# Altium footprint library MitchSwitch_Bypass.PCBLIB: 270 footprints (part 16 of 17)
Each footprint in its own frame and in the unit in brackets; x right, y up, seen from the top. Pads: shape width x height; smd on the part's side, far side on the other; paste and mask are expansions set on the pad; w line width, h text height; cw(c..) or ccw(c..) is an arc to the next point about the centre after c.
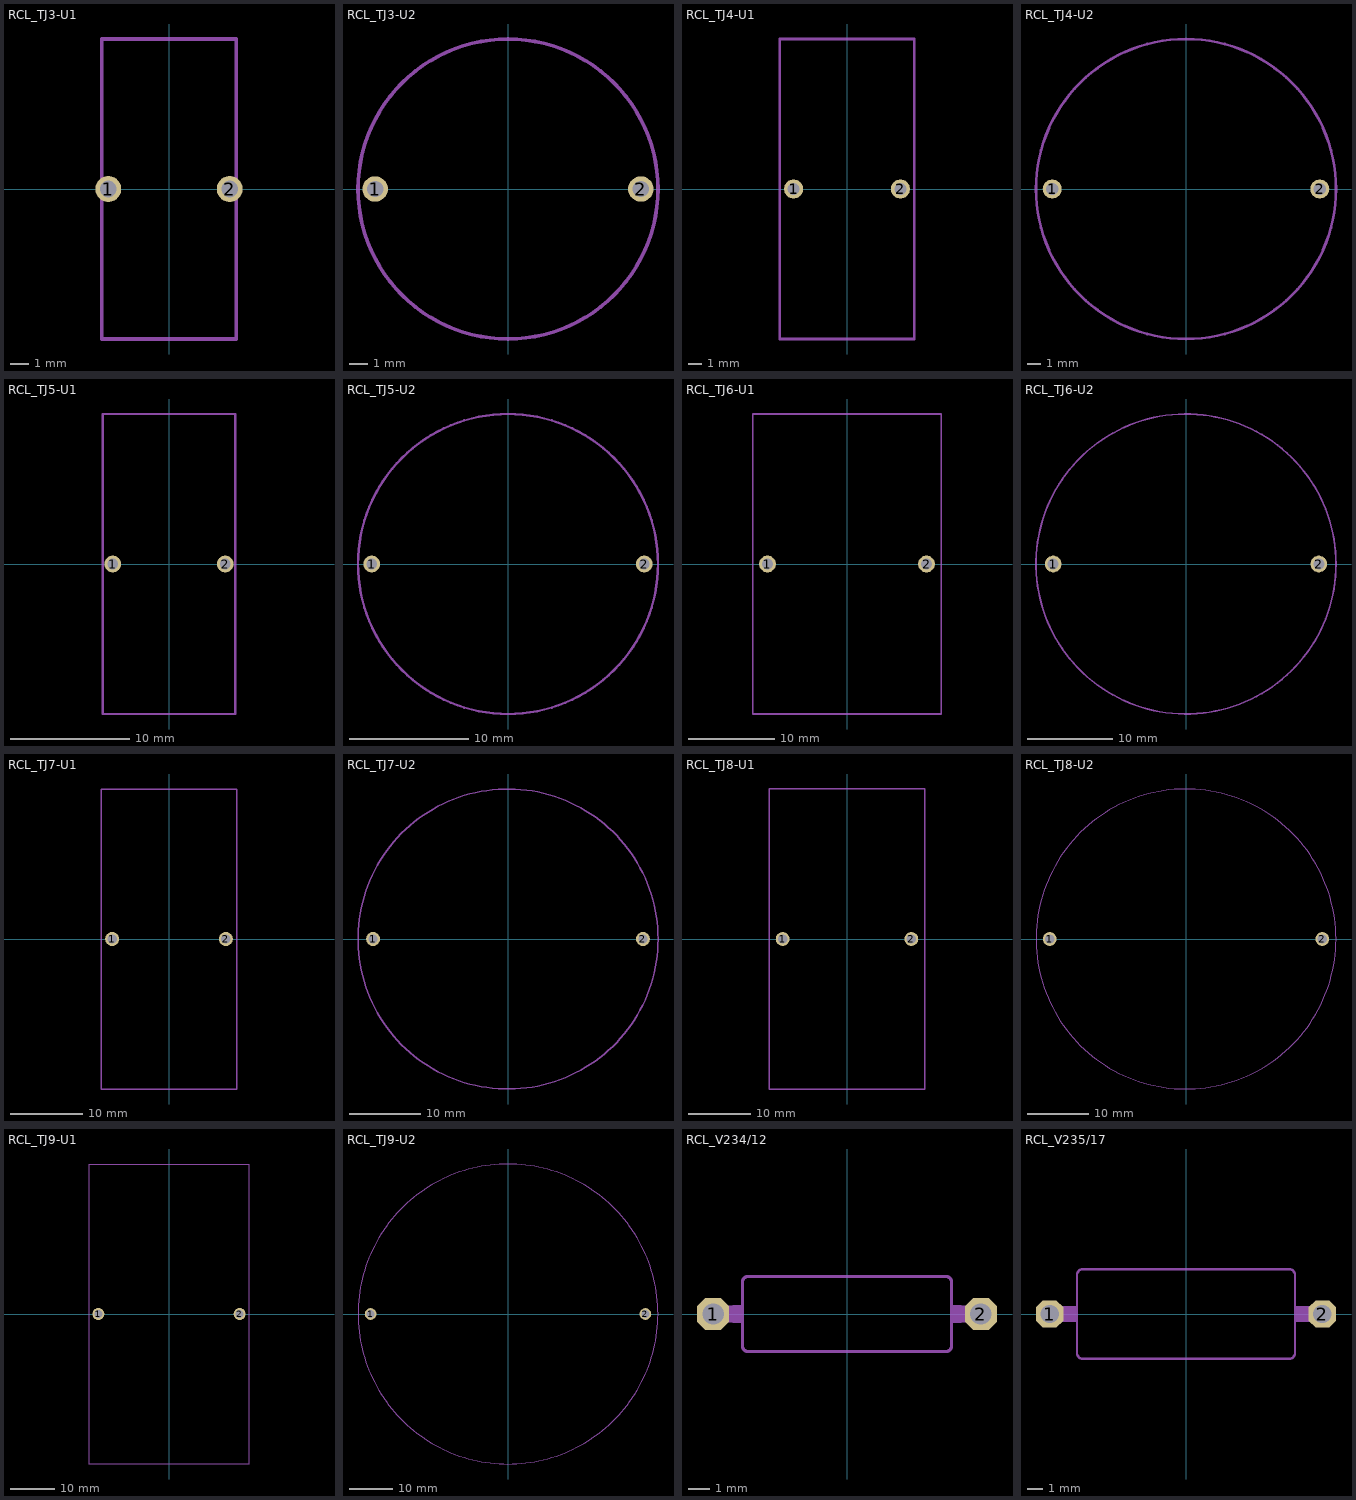
[diagram p15: the footprints below, top view; thin cyan lines are the x and y axes]

## RCL_TJ3-U1 [mil]
pads (2):
  round 55.43 hole 35.43: 1(-129.92,0) 2(129.92,0)
Mechanical 3:
  lines w8: -143.7,-43.31 -143.7,43.31 ; 143.7,-43.31 143.7,43.31
Mechanical 7:
  lines w8: -143.7,-43.31 -143.7,-320.87 143.7,-320.87 143.7,-43.31 ; -143.7,43.31 -143.7,320.87 143.7,320.87 143.7,43.31

## RCL_TJ3-U2 [mm]
pads (2):
  round 1.408 hole 0.9: 1(-7.35,0) 2(7.35,0)
Top Value:
  circle w0.203: c0,0 r8.3

## RCL_TJ4-U1 [mil]
pads (2):
  round 55.43 hole 35.43: 1(-154.92,0) 2(154.92,0)
Mechanical 7:
  lines w8: -194.88,-435.04 194.88,-435.04 194.88,435.04 -194.88,435.04 -194.88,-435.04

## RCL_TJ4-U2 [mil]
pads (2):
  round 55.43 hole 35.43: 1(-389.76,0) 2(389.76,0)
Top Value:
  circle w8: c0,0 r437.01

## RCL_TJ5-U1 [mm]
pads (2):
  round 1.408 hole 0.9: 1(-4.7,0) 2(4.7,0)
Mechanical 7:
  lines w0.203: -5.55,-12.55 5.55,-12.55 5.55,12.55 -5.55,12.55 -5.55,-12.55

## RCL_TJ5-U2 [mil]
pads (2):
  round 55.43 hole 35.43: 1(-450.79,0) 2(450.79,0)
Top Value:
  circle w8: c0,0 r496.06

## RCL_TJ6-U1 [mil]
pads (2):
  round 76.77 hole 51.18: 1(-364.17,0) 2(364.17,0)
Mechanical 7:
  lines w8: -431.1,-687.01 431.1,-687.01 431.1,687.01 -431.1,687.01 -431.1,-687.01

## RCL_TJ6-U2 [mil]
pads (2):
  round 76.77 hole 51.18: 1(-610.24,0) 2(610.24,0)
Top Value:
  circle w8: c0,0 r688.98

## RCL_TJ7-U1 [mil]
pads (2):
  round 76.77 hole 51.18: 1(-311.02,0) 2(311.02,0)
Mechanical 7:
  lines w8: -372.05,-820.87 372.05,-820.87 371.26,820.87 -372.05,820.87 -372.05,-820.87

## RCL_TJ7-U2 [mil]
pads (2):
  round 76.77 hole 51.18: 1(-740.16,0) 2(740.16,0)
Top Value:
  circle w8: c0,0 r822.83

## RCL_TJ8-U1 [mil]
pads (2):
  round 88.59 hole 59.06: 1(-409.45,0) 2(409.45,0)
Mechanical 7:
  lines w8: -494.09,-954.72 494.09,-954.72 494.09,954.72 -494.09,954.72 -494.09,-954.72

## RCL_TJ8-U2 [mil]
pads (2):
  round 88.59 hole 59.06: 1(-879.92,0) 2(879.92,0)
Top Value:
  circle w8: c0,0 r968.5

## RCL_TJ9-U1 [mil]
pads (2):
  round 106.31 hole 70.87: 1(-625.98,0) 2(625.98,0)
Mechanical 7:
  lines w8: -706.69,-1328.74 706.69,-1328.74 706.69,1328.74 -706.69,1328.74 -706.69,-1328.74

## RCL_TJ9-U2 [mil]
pads (2):
  round 106.31 hole 70.87: 1(-1244.09,0) 2(1244.09,0)
Top Value:
  circle w8: c0,0 r1358.27

## RCL_V234/12 [mil]
pads (2):
  oct 60x60 / inner round 55.43 / far side oct 60x60 hole 40: 1(-250,0) 2(250,0)
Mechanical 3:
  lines w32: -250,0 -215,0 ; 215,0 250,0
Mechanical 7:
  region: 195,-16 195,16 213,16 213,-16
  region: -213,-16 -213,16 -195,16 -195,-16
  lines w6: -195,-60 ccw(c-185,-60) -185,-70 185,-70 ccw(c185,-60) 195,-60 195,60 ccw(c185,60) 185,70 -185,70 ccw(c-185,60) -195,60 -195,-60

## RCL_V235/17 [mil]
pads (2):
  oct 70.5x70.5 / inner round 65.13 / far side oct 70.5x70.5 hole 47: 1(-350,0) 2(350,0)
Mechanical 3:
  lines w40: -350,0 -310,0 ; 310,0 350,0
Mechanical 7:
  region: 280,-20 280,20 305,20 305,-20
  region: -305,-20 -305,20 -280,20 -280,-20
  lines w6: -280,-100 -280,100 cw(c-265,100) -265,115 265,115 cw(c265,100) 280,100 280,-100 cw(c265,-100) 265,-115 -265,-115 cw(c-265,-100) -280,-100